# Altium footprint library TRANS_BSC076N06NS3-G.PcbLib: 1 footprints
Each footprint in its own frame and in the unit in brackets; x right, y up, seen from the top. Pads: shape width x height; smd on the part's side, far side on the other; paste and mask are expansions set on the pad; w line width, h text height; cw(c..) or ccw(c..) is an arc to the next point about the centre after c.
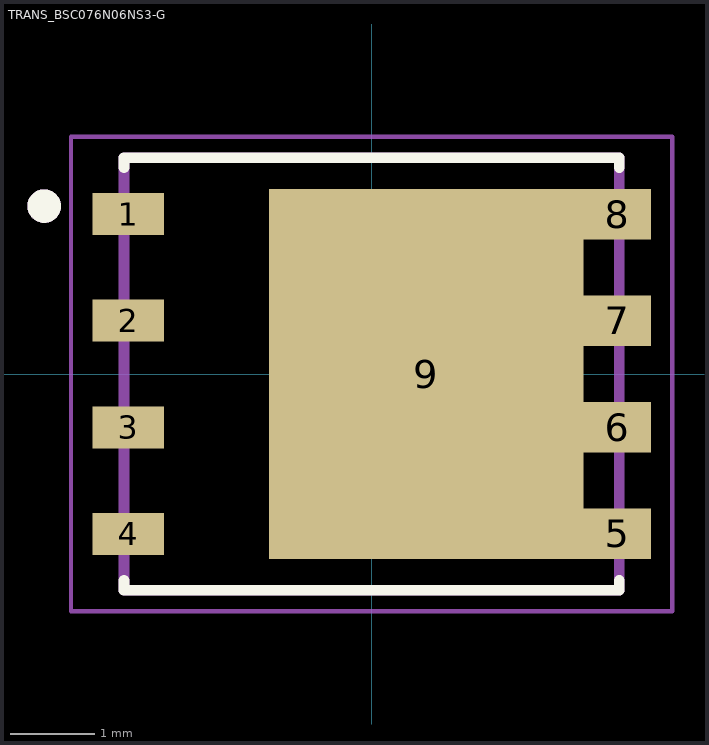
[diagram p0: the footprint, top view; thin cyan lines are the x and y axes]

## TRANS_BSC076N06NS3-G [mm]
pads (9):
  rect 0.85x0.5 smd paste-1: 1(-2.9,1.905) 2(-2.9,0.635) 3(-2.9,-0.635) 4(-2.9,-1.905)
  rect 0.8x0.6 smd paste-1: 5(2.925,-1.905) 6(2.925,-0.635) 7(2.925,0.635) 8(2.925,1.905)
  rect 3.75x4.41 smd paste-3: 9(0.65,0)
Top Overlay:
  circle w0.2: c-3.9,2 r0.1
  lines w0.127: -2.95,-2.46 -2.95,-2.575 2.95,-2.575 2.95,-2.46 ; -2.95,2.46 -2.95,2.575 2.95,2.575 2.95,2.46
Top Paste:
  region: 0.55,0.1 -0.95,0.1 -0.95,1.6 0.55,1.6
  region: 0.55,-1.6 -0.95,-1.6 -0.95,-0.1 0.55,-0.1
  region: 2.25,-1.6 0.75,-1.6 0.75,-0.1 2.25,-0.1
  region: 2.25,0.1 0.75,0.1 0.75,1.6 2.25,1.6
  region: -2.525,-0.835 -3.275,-0.835 -3.275,-0.435 -2.525,-0.435
  region: -2.525,-2.105 -3.275,-2.105 -3.275,-1.705 -2.525,-1.705
  region: -2.525,0.435 -3.275,0.435 -3.275,0.835 -2.525,0.835
  region: -2.525,1.705 -3.275,1.705 -3.275,2.105 -2.525,2.105
  region: 3.28,1.655 2.53,1.655 2.53,2.155 3.28,2.155
  region: 3.28,0.385 2.53,0.385 2.53,0.885 3.28,0.885
  region: 3.28,-0.885 2.53,-0.885 2.53,-0.385 3.28,-0.385
  region: 3.28,-2.155 2.53,-2.155 2.53,-1.655 3.28,-1.655
Mechanical 13:
  circle w0.2: c-3.9,2 r0.1
  lines w0.127: -2.95,-2.575 -2.95,2.575 2.95,2.575 2.95,-2.575 -2.95,-2.575
Mechanical 15:
  lines w0.05: -3.58,-2.825 -3.58,2.825 3.58,2.825 3.58,-2.825 -3.58,-2.825
3D body "step_temp.STEP": height 1.1, standoff 0, extent -3.075,-2.5 3.075,2.5